# Altium footprint library PiezoDrive.PcbLib: 6 footprints
Each footprint in its own frame and in the unit in brackets; x right, y up, seen from the top. Pads: shape width x height; smd on the part's side, far side on the other; paste and mask are expansions set on the pad; w line width, h text height; cw(c..) or ccw(c..) is an arc to the next point about the centre after c.
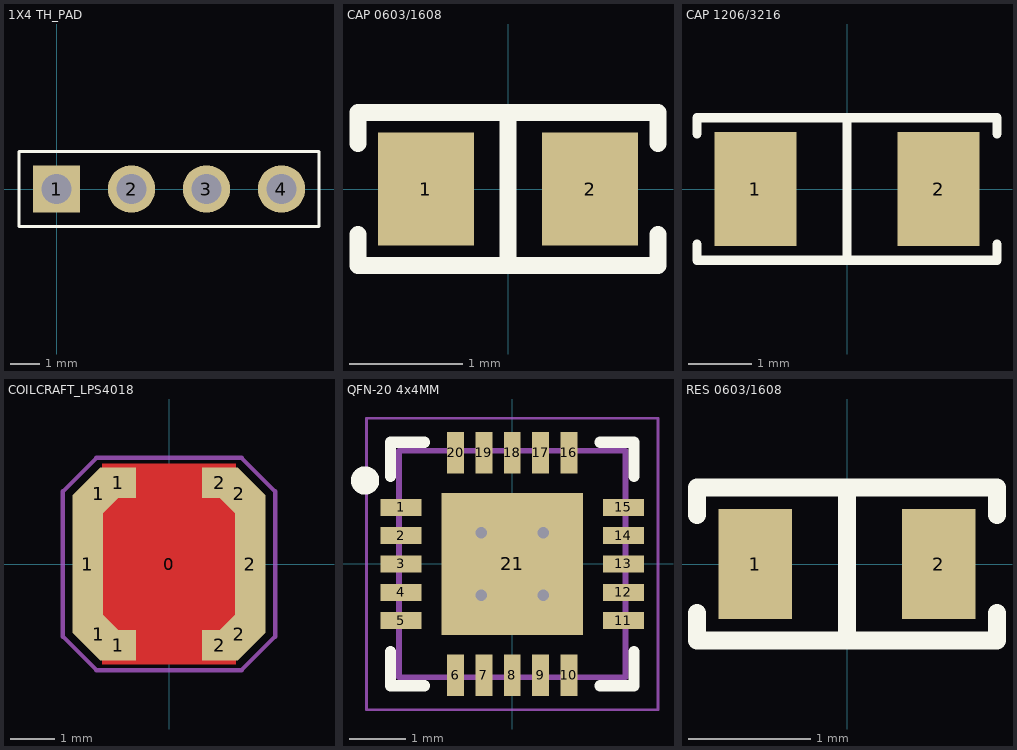
[diagram p0: the footprints below, top view; thin cyan lines are the x and y axes]

## 1X4 TH_PAD [mm] "1X4 2.54MM TH PAD"
pads (4):
  rect 1.6x1.6 hole 1: 1(0,0)
  round 1.6 hole 1: 2(2.54,0) 3(5.08,0) 4(7.62,0)
Top Overlay:
  lines w0.1: -1.27,-1.27 -1.27,1.27 8.89,1.27 8.89,-1.27 -1.27,-1.27

## CAP 0603/1608 [mm] "Chip Capacitor, 2-Leads, Body 1.60x0.80mm, IPC Medium Density"
height 0.89
pads (2):
  rect 0.85x1 smd: 1(-0.725,0) 2(0.725,0)
Top Overlay:
  lines w0.15: -1.325,-0.4 -1.325,-0.675 1.325,-0.675 1.325,-0.4 ; -1.325,0.4 -1.325,0.675 1.325,0.675 1.325,0.4 ; 0,-0.675 0,0.675
3D body "0603 cap.STEP": height 0.82, standoff 0, extent -0.8,-0.412 0.8,0.412

## CAP 1206/3216 [mm] "Chip Capacitor, 2-Leads, Body 3.25x1.60mm, IPC Medium Density"
height 1.2
pads (2):
  rect 1.3x1.8 smd: 1(-1.45,0) 2(1.45,0)
Top Overlay:
  lines w0.15: -2.375,-0.875 -2.375,-1.125 2.375,-1.125 2.375,-0.875 ; -2.375,0.875 -2.375,1.125 2.375,1.125 2.375,0.875 ; 0,-1.125 0,1.125
3D body "CAP 1206-0.8mm.STEP": height 0.8, standoff 0, extent -1.6,-0.8 1.6,0.8

## COILCRAFT_LPS4018 [mm] "Shielded Power Inductor, Body 4.0x4.0x1.8mm"
height 1.8
pads (11):
  round 0.5 on Mech15: 0(0,0)
  rrect1% 0.7x3.124 smd: 1(-1.85,0) 2(1.85,0)
  rrect1% 0.786x0.902 smd rot 45: 1(-1.603,-1.603) 2(1.603,1.603)
  rrect1% 0.786x0.902 smd rot 135: 1(-1.603,1.603) 2(1.603,-1.603)
  rrect1% 0.812x0.7 smd: 1(-1.156,-1.85) 1(-1.156,1.85) 2(1.156,-1.85) 2(1.156,1.85)
Top Layer:
  pour cut-out: -1.524,2.286 1.524,2.286 1.524,-2.286 -1.524,-2.286
Mechanical 13:
  lines w0.076: -2,-1.275 -2,1.325 -1.325,2 1.325,2 2,1.325 2,-1.275 1.275,-2 -1.275,-2 -2,-1.275
Mechanical 15:
  lines w0.1: -2.413,-1.651 -1.651,-2.413 1.651,-2.413 2.413,-1.651 2.413,1.651 1.651,2.413 -1.651,2.413 -2.413,1.651 -2.413,-1.651
3D body "Inductor Coilcraft LPS4018.STEP": height 1.79, standoff -0.01, extent -2,-2 2,2

## QFN-20 4x4MM [mm] "QFN, 20-Leads, Body 4.00x4.00mm, Pitch 0.50mm, Thermal Pad 2.50x2.50mm, IPC Medium Density"
height 1
pads (21):
  rect 0.73x0.3 smd: 1(-1.965,1) 2(-1.965,0.5) 3(-1.965,0) 4(-1.965,-0.5) 5(-1.965,-1) 11(1.965,-1) 12(1.965,-0.5) 13(1.965,0) 14(1.965,0.5) 15(1.965,1)
  rect 0.3x0.73 smd: 6(-1,-1.965) 7(-0.5,-1.965) 8(0,-1.965) 9(0.5,-1.965) 10(1,-1.965) 16(1,1.965) 17(0.5,1.965) 18(0,1.965) 19(-0.5,1.965) 20(-1,1.965)
  rect 2.5x2.5 smd: 21(0,0)
via 0.55,-0.55 diameter 0.5 hole 0.2
via -0.55,-0.55 diameter 0.5 hole 0.2
via 0.55,0.55 diameter 0.5 hole 0.2
via -0.55,0.55 diameter 0.5 hole 0.2
Top Overlay:
  circle w0.25: c-2.6,1.475 r0.125
  lines w0.2: -2.15,-1.55 -2.15,-2.15 -1.55,-2.15 ; -2.15,1.55 -2.15,2.15 -1.55,2.15 ; 1.55,-2.15 2.15,-2.15 2.15,-1.55 ; 1.55,2.15 2.15,2.15 2.15,1.55
Mechanical 13:
  lines w0.1: -2,-2 2,-2 2,2 -2,2 -2,-2
Mechanical 15:
  lines w0.05: -2.575,-2.575 2.575,-2.575 2.575,2.575 -2.575,2.575 -2.575,-2.575
  lines w0.1: -0.5,0 0.5,0 ; 0,-0.5 0,0.5
3D body "QFN20_4X4.step": height 0.9, standoff 0, extent -2.005,-2.005 2.005,2.005

## RES 0603/1608 [mm] "Chip Resistor, 2-Leads, Body 1,60x0,80mm, IPC Medium Density"
height 0.45
pads (2):
  rect 0.6x0.9 smd: 1(-0.75,0) 2(0.75,0)
Top Overlay:
  lines w0.15: -1.225,-0.4 -1.225,-0.625 1.225,-0.625 1.225,-0.4 ; -1.225,0.4 -1.225,0.625 1.225,0.625 1.225,0.4 ; 0,-0.625 0,0.625
3D body "RESC1608X50N EIA 0603.step": height 0.5, standoff 0, extent -0.8,-0.4 0.8,0.4